# Altium footprint library Ale.PcbLib: 181 footprints (part 3 of 12)
Each footprint in its own frame and in the unit in brackets; x right, y up, seen from the top. Pads: shape width x height; smd on the part's side, far side on the other; paste and mask are expansions set on the pad; w line width, h text height; cw(c..) or ccw(c..) is an arc to the next point about the centre after c.
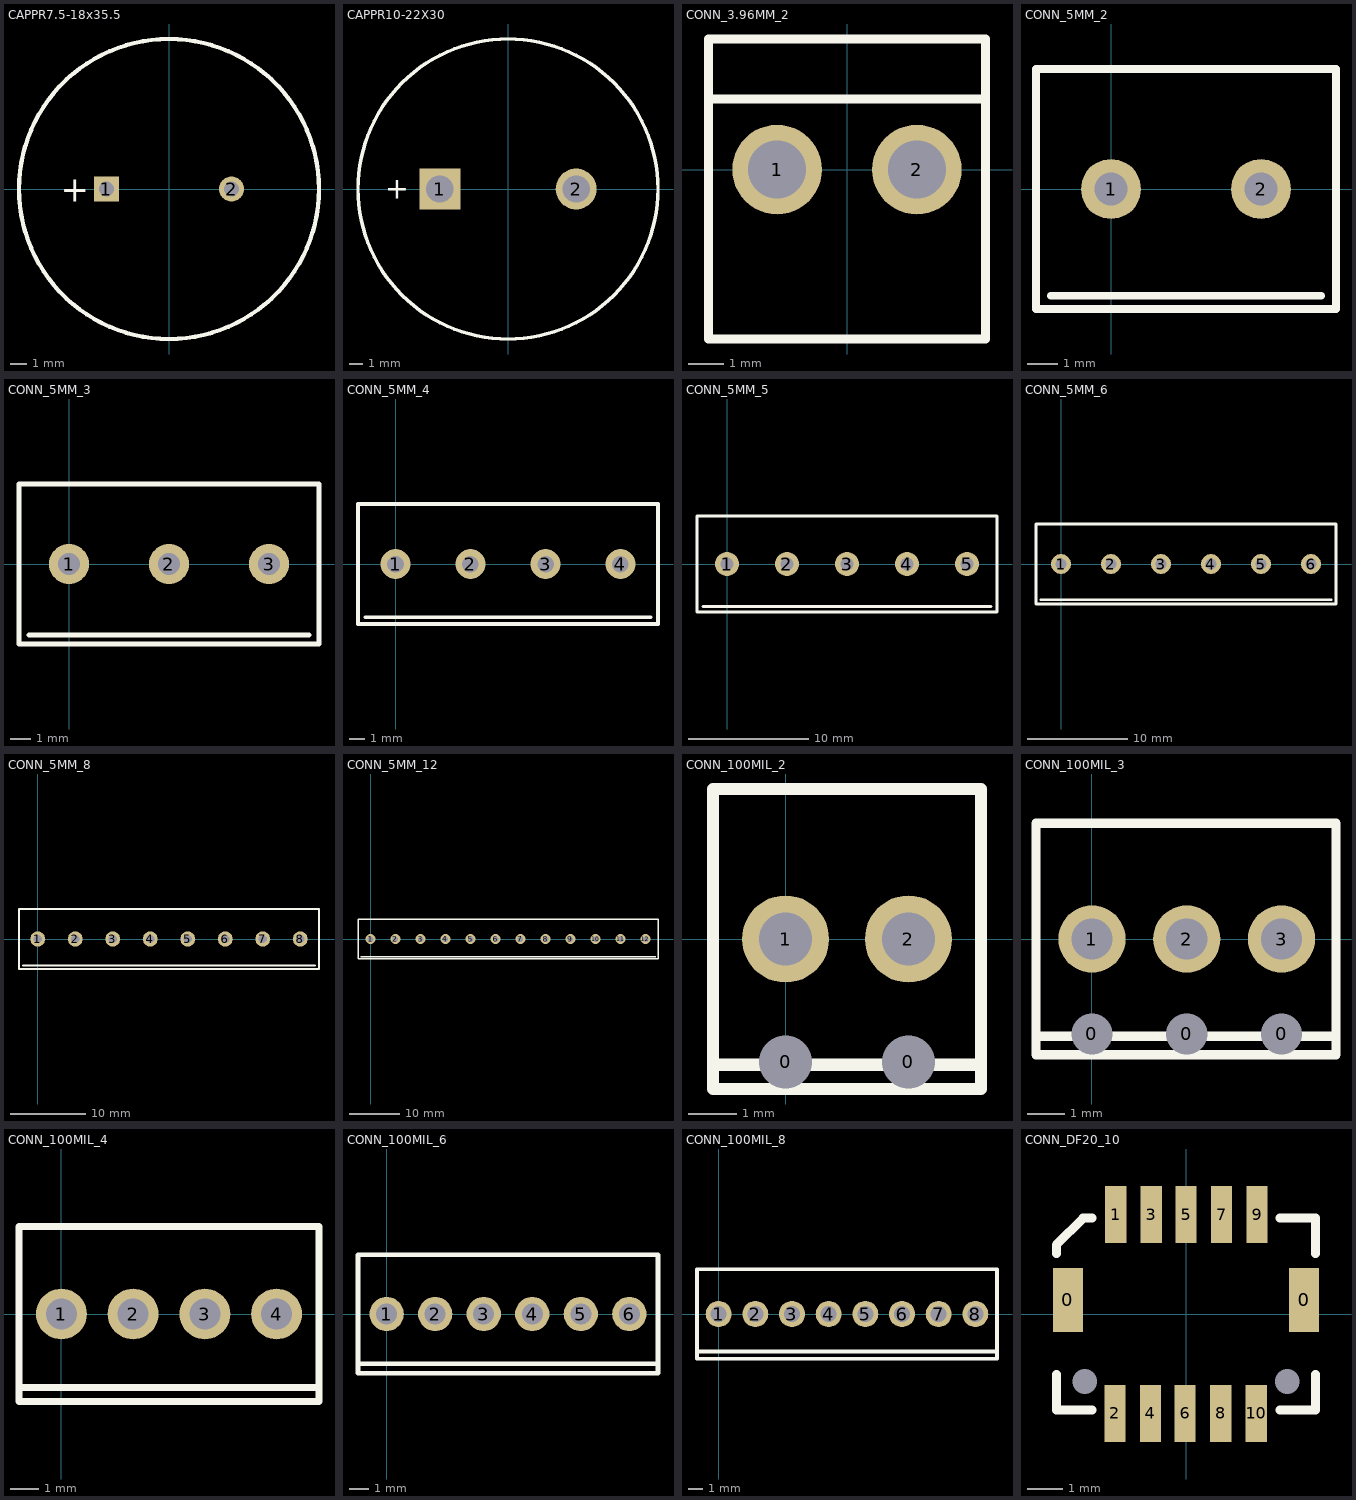
[diagram p2: the footprints below, top view; thin cyan lines are the x and y axes]

## CAPPR7.5-18x35.5 [mm] "Capacitor, Electrolytic, Radial; Body 18 x 35.5 mm (Dia.xH typ); Pin Spacing 7 mm (typ)"
height 35.5
pads (2):
  rect 1.5x1.5 hole 0.9: 1(-3.75,0)
  round 1.5 hole 0.9: 2(3.75,0)
Top Overlay:
  circle w0.254: c0,0 r9
  text "+" at -6.5,-0.75 h1.5
3D body: height 35.5, standoff 0, extent -8.999,-8.999 8.999,8.999

## CAPPR10-22X30 [mm] "Capacitor, Electrolytic, Radial, Snap-In; Body 22 x 30 mm (Dia.xH typ); Pin Spacing 10 mm (typ)"
height 30
pads (2):
  rect 3x3 hole 2: 1(-5,0)
  round 3 hole 2: 2(5,0)
Top Overlay:
  circle w0.254: c0,0 r11
  text "+" at -9,-0.7 h1.52
3D body: height 30, standoff 0, extent -10.999,-10.999 10.999,10.999

## CONN_3.96MM_2 [mm] "3.96 mm pitch disconnectable crimp connector"
height 9.9
pads (2):
  round 2.54 hole 1.65: 1(-1.98,0) 2(1.98,0)
Top Overlay:
  lines w0.254: -3.93,2 3.93,2 ; -3.93,-4.8 3.93,-4.8 3.93,3.7 -3.93,3.7 -3.93,-4.8
3D body: height 9.9, standoff 0, extent -3.929,-4.799 3.929,3.699

## CONN_5MM_2 [mm] "Connector, 5 mm pitch, 2 pins"
height 10
pads (2):
  round 2 hole 1.1: 1(0,0) 2(5,0)
Top Overlay:
  lines w0.254: -2.5,-4 -2.5,4 7.5,4 7.5,-4 -2.5,-4 ; -2,-3.556 7,-3.556

## CONN_5MM_3 [mm] "Connector, 5 mm pitch, 3 pins"
height 10
pads (3):
  round 2 hole 1.1: 1(0,0) 2(5,0) 3(10,0)
Top Overlay:
  lines w0.254: -2.5,-4 -2.5,4 ; -2.5,-4 12.5,-4 12.5,4 -2.5,4 ; -2,-3.556 12,-3.556

## CONN_5MM_4 [mm] "Connector, 5 mm pitch, 4 pins"
height 10
pads (4):
  round 2 hole 1.1: 1(0,0) 2(5,0) 3(10,0)
  round 2 hole 1.1 mask+0.102: 4(15,0)
Top Overlay:
  lines w0.254: -2.5,-4 -2.5,4 ; -2.5,-4 17.5,-4 17.5,4 -2.5,4 ; -2,-3.556 17,-3.556

## CONN_5MM_5 [mm] "Connector, 5 mm pitch, 5 pins"
height 10
pads (5):
  round 2 hole 1.1: 1(0,0) 2(5,0) 3(10,0)
  round 2 hole 1.1 mask+0.102: 4(15,0) 5(20,0)
Top Overlay:
  lines w0.254: -2.5,-4 -2.5,4 ; -2.5,-4 22.5,-4 22.5,4 -2.5,4 ; -2,-3.556 22,-3.556

## CONN_5MM_6 [mm] "Connector, 5 mm pitch, 6 pins"
height 10
pads (6):
  round 2 hole 1.1: 1(0,0) 2(5,0) 3(10,0)
  round 2 hole 1.1 mask+0.102: 4(15,0) 5(20,0) 6(25,0)
Top Overlay:
  lines w0.254: -2.5,-4 -2.5,4 ; -2.5,-4 27.5,-4 27.5,4 -2.5,4 ; -2,-3.556 27,-3.556

## CONN_5MM_8 [mm] "Connector, 5 mm pitch, 8 pins"
height 10
pads (8):
  round 2 hole 1.1: 1(0,0) 2(5,0) 3(10,0)
  round 2 hole 1.1 mask+0.102: 4(15,0) 5(20,0) 6(25,0) 7(30,0) 8(35,0)
Top Overlay:
  lines w0.254: -2.5,-4 -2.5,4 ; -2.5,-4 37.5,-4 37.5,4 -2.5,4 ; -2,-3.556 37,-3.556

## CONN_5MM_12 [mm] "Connector, 5 mm pitch, 12 pins"
height 10
pads (12):
  round 2 hole 1.1: 1(0,0) 2(5,0) 3(10,0) 7(30,0) 8(35,0)
  round 2 hole 1.1 mask+0.102: 4(15,0) 5(20,0) 6(25,0) 9(40,0) 10(45,0) 11(50,0) 12(55,0)
Top Overlay:
  lines w0.254: -2.5,-4 -2.5,4 ; -2.5,-4 57.5,-4 57.5,4 -2.5,4 ; -2,-3.556 57,-3.556

## CONN_100MIL_2 [mm] "Connector, 2.54 mm pitch, 2 pins"
height 8.5
pads (4):
  round 1 hole 1.1: 0(0,-2.54) 0(2.54,-2.54)
  round 1.8 hole 1.1: 1(0,0) 2(2.54,0)
Top Overlay:
  lines w0.254: -1.5,-2.6 4,-2.6 ; -1.5,-3.1 -1.5,3.1 4.04,3.1 4.04,-3.1 -1.5,-3.1
3D body: height 8.5, standoff 0, extent -1.627,-3.227 4.167,3.227

## CONN_100MIL_3 [mm] "Connector, 2.54 mm pitch, 3 pins"
height 8.5
pads (6):
  round 1 hole 1.1: 0(0,-2.54) 0(2.54,-2.54) 0(5.08,-2.54)
  round 1.8 hole 1.1: 1(0,0) 2(2.54,0) 3(5.08,0)
Top Overlay:
  lines w0.254: -1.5,-2.6 6.54,-2.6 ; -1.5,-3.1 -1.5,3.1 6.54,3.1 6.54,-3.1 -1.5,-3.1
3D body: height 8.5, standoff 0, extent -1.627,-3.227 6.667,3.227

## CONN_100MIL_4 [mm] "Connector, 2.54 mm pitch, 4 pins"
height 8.5
pads (4):
  round 1.8 hole 1.1: 1(0,0) 2(2.54,0) 3(5.08,0) 4(7.62,0)
Top Overlay:
  lines w0.254: -1.5,-2.6 9.12,-2.6 ; -1.5,-3.1 9.12,-3.1 9.12,3.1 -1.5,3.1 -1.5,-3.1
3D body: height 8.5, standoff 0, extent -1.627,-3.227 9.247,3.227

## CONN_100MIL_6 [mm] "Connector, 2.54 mm pitch, 6 pins"
height 8.5
pads (6):
  round 1.8 hole 1.1: 1(0,0) 2(2.54,0) 3(5.08,0) 4(7.62,0) 5(10.16,0) 6(12.7,0)
Top Overlay:
  lines w0.254: -1.5,-2.6 14.2,-2.6 ; -1.5,-3.1 14.2,-3.1 14.2,3.1 -1.5,3.1 -1.5,-3.1
3D body: height 8.5, standoff 0, extent -1.627,-3.227 14.327,3.227

## CONN_100MIL_8 [mm] "Connector, 2.54 mm pitch, 8 pins"
height 8.5
pads (8):
  round 1.8 hole 1.1: 1(0,0) 2(2.54,0) 3(5.08,0) 4(7.62,0) 5(10.16,0) 6(12.7,0) 7(15.24,0) 8(17.78,0)
Top Overlay:
  lines w0.254: -1.5,-2.6 19.2,-2.6 ; 19.2,3.1 -1.5,3.1 -1.5,-3.1 19.28,-3.1 19.28,3.1
3D body: height 8.5, standoff 0, extent -1.627,-3.227 19.407,3.227

## CONN_DF20_10 [mm] "Hirose DF20 connector, 10 pins"
height 4.6
pads (14):
  rect 0.85x1.8 smd: 0(-3.325,0.4) 0(3.325,0.4)
  round 0 hole 0.7: 0(-2.85,-1.9) 0(2.85,-1.9)
  rect 0.6x1.6 smd: 1(-1.975,2.8) 2(-2,-2.8) 3(-0.975,2.8) 4(-1,-2.8) 5(0,2.8) 6(-0.025,-2.8) 7(1,2.8) 8(0.975,-2.8) 9(2,2.8) 10(1.975,-2.8)
Top Overlay:
  lines w0.254: -3.65,-1.7 -3.65,-2.7 -2.65,-2.7 ; -3.65,1.7 -3.65,1.95 -2.9,2.7 -2.65,2.7 ; 2.65,-2.7 3.65,-2.7 3.65,-1.7 ; 2.65,2.7 3.65,2.7 3.65,1.7
3D body: height 4.6, standoff 0, extent -3.649,-2.699 3.649,2.699